# Altium footprint library GS61004B.PcbLib: 1 footprints
Each footprint in its own frame and in the unit in brackets; x right, y up, seen from the top. Pads: shape width x height; smd on the part's side, far side on the other; paste and mask are expansions set on the pad; w line width, h text height; cw(c..) or ccw(c..) is an arc to the next point about the centre after c.
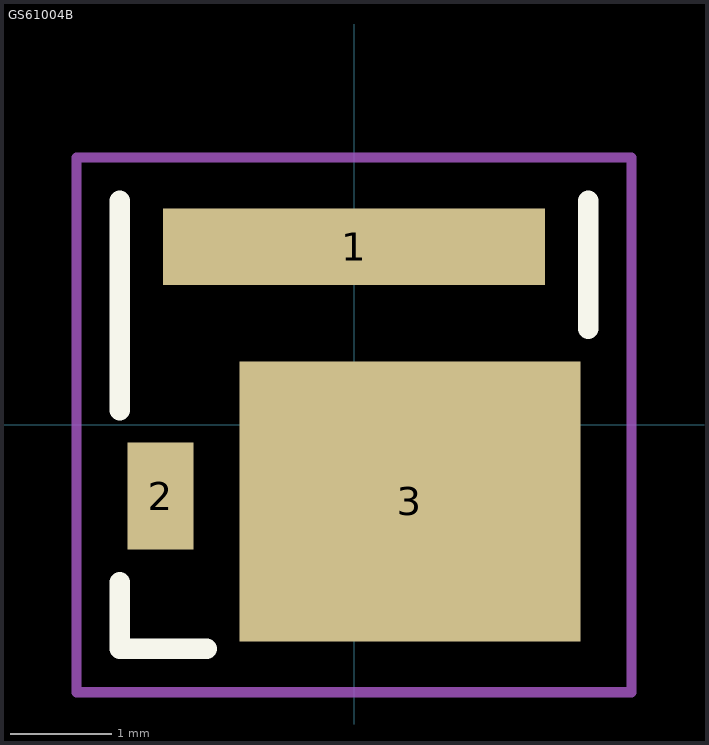
[diagram p0: the footprint, top view; thin cyan lines are the x and y axes]

## GS61004B [mm] "100V, 38A, GaN E-mode"
pads (3):
  rect 3.75x0.75 smd: 1(0,1.75)
  rect 0.65x1.05 smd: 2(-1.9,-0.7)
  rect 3.35x2.75 smd: 3(0.55,-0.75)
Top Overlay:
  lines w0.2: -2.3,-1.545 -2.3,-2.2 -1.445,-2.2 ; -2.3,0.145 -2.3,2.2 ; 2.3,0.945 2.3,2.2
Top Courtyard:
  lines w0.1: -2.725,-2.625 2.725,-2.625 2.725,2.625 -2.725,2.625 -2.725,-2.625
3D body "step_temp.STEP": height 0.59, standoff 0, extent -2.3,-2.2 2.3,2.2